# Altium footprint library SOD.PcbLib: 4 footprints
Each footprint in its own frame and in the unit in brackets; x right, y up, seen from the top. Pads: shape width x height; smd on the part's side, far side on the other; paste and mask are expansions set on the pad; w line width, h text height; cw(c..) or ccw(c..) is an arc to the next point about the centre after c.
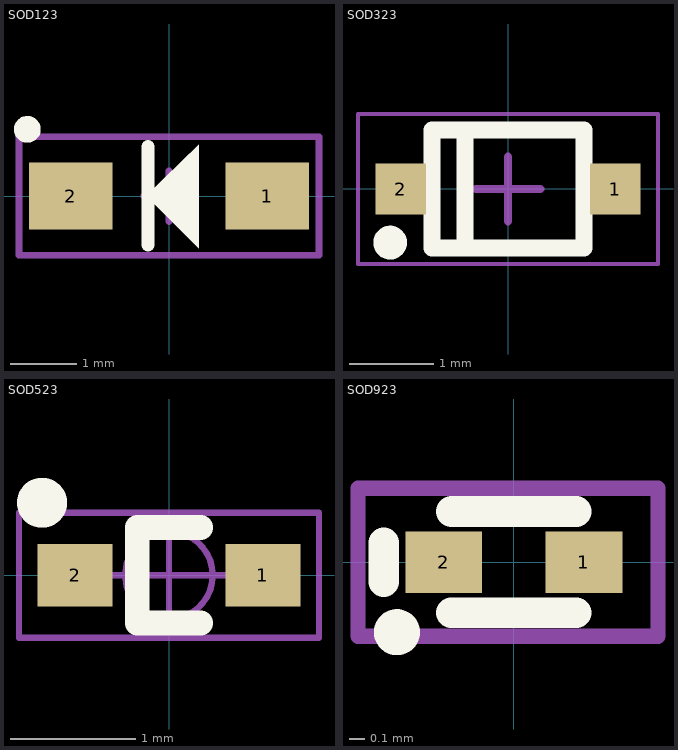
[diagram p0: the footprints below, top view; thin cyan lines are the x and y axes]

## SOD123 [mm]
height 1.75
pads (2):
  rect 1.25x1 smd: 1(1.475,0) 2(-1.475,0)
Top Overlay:
  circle w0.2: c-2.125,1 r0.1
  region: 0.447,-0.784 0.447,0.766 -0.341,0.004
  lines w0.2: -0.315,-0.733 -0.315,0.74
Mechanical 15:
  lines w0.1: -0.381,0 0.381,0 ; 0,-0.381 0,0.381 ; -2.25,-0.889 2.25,-0.889 2.25,0.889 -2.25,0.889 -2.25,-0.889
3D body "SOD123.STEP": height 1.35, standoff 0, extent -1.835,-0.771 1.865,0.779

## SOD323 [mm] "贴片二极管"
height 1.05
pads (2):
  rect 0.6x0.6 smd: 1(1.27,0) 2(-1.27,0)
Top Overlay:
  circle w0.2: c-1.397,-0.635 r0.1
  lines w0.2: -0.508,-0.7 -0.508,0.7 ; 0.9,-0.7 -0.9,-0.7 -0.9,0.7 0.9,0.7 ; 0.9,-0.7 0.9,0.7 ; 0.9,-0.7 0.9,0.7
Mechanical 15:
  lines w0.05: -1.778,-0.889 1.778,-0.889 1.778,0.889 -1.778,0.889 -1.778,-0.889
  lines w0.1: -0.381,0 0.381,0 ; 0,-0.381 0,0.381
3D body "SOD323.STEP": height 0.98, standoff -0.01, extent -1.25,-0.625 1.25,0.625

## SOD523 [mm]
pads (2):
  rect 0.6x0.5 smd: 1(0.75,0) 2(-0.75,0)
Top Overlay:
  circle w0.2: c-1.016,0.58 r0.1
  lines w0.2: 0.254,-0.381 -0.254,-0.381 -0.254,0.381 0.254,0.381
Mechanical 15:
  circle w0.05: c0,0 r0.35
  lines w0.05: -0.5,0 0.5,0 ; 0,-0.5 0,0.5 ; -1.2,-0.5 -1.2,0.5 1.2,0.5 1.2,-0.5 -1.2,-0.5
3D body "SOD523.STEP": height 0.7, standoff 0, extent -0.8,-0.399 0.8,0.399

## SOD923 [mm]
pads (2):
  rect 0.5x0.4 smd: 1(0.457,0) 2(-0.457,0)
Top Overlay:
  circle w0.2: c-0.762,-0.457 r0.05
  lines w0.2: -0.848,-0.127 -0.848,0.127 ; -0.406,-0.33 0.406,-0.33 ; -0.406,0.33 0.406,0.33
Mechanical 15:
  lines w0.1: -1.016,-0.483 -1.016,0.483 0.94,0.483 0.94,-0.483 -1.016,-0.483
3D body "SOD923_1.STEP": height 0.43, standoff 0, extent -0.525,-0.325 0.525,0.325